# Altium footprint library misc1.PcbLib: 16 footprints
Each footprint in its own frame and in the unit in brackets; x right, y up, seen from the top. Pads: shape width x height; smd on the part's side, far side on the other; paste and mask are expansions set on the pad; w line width, h text height; cw(c..) or ccw(c..) is an arc to the next point about the centre after c.
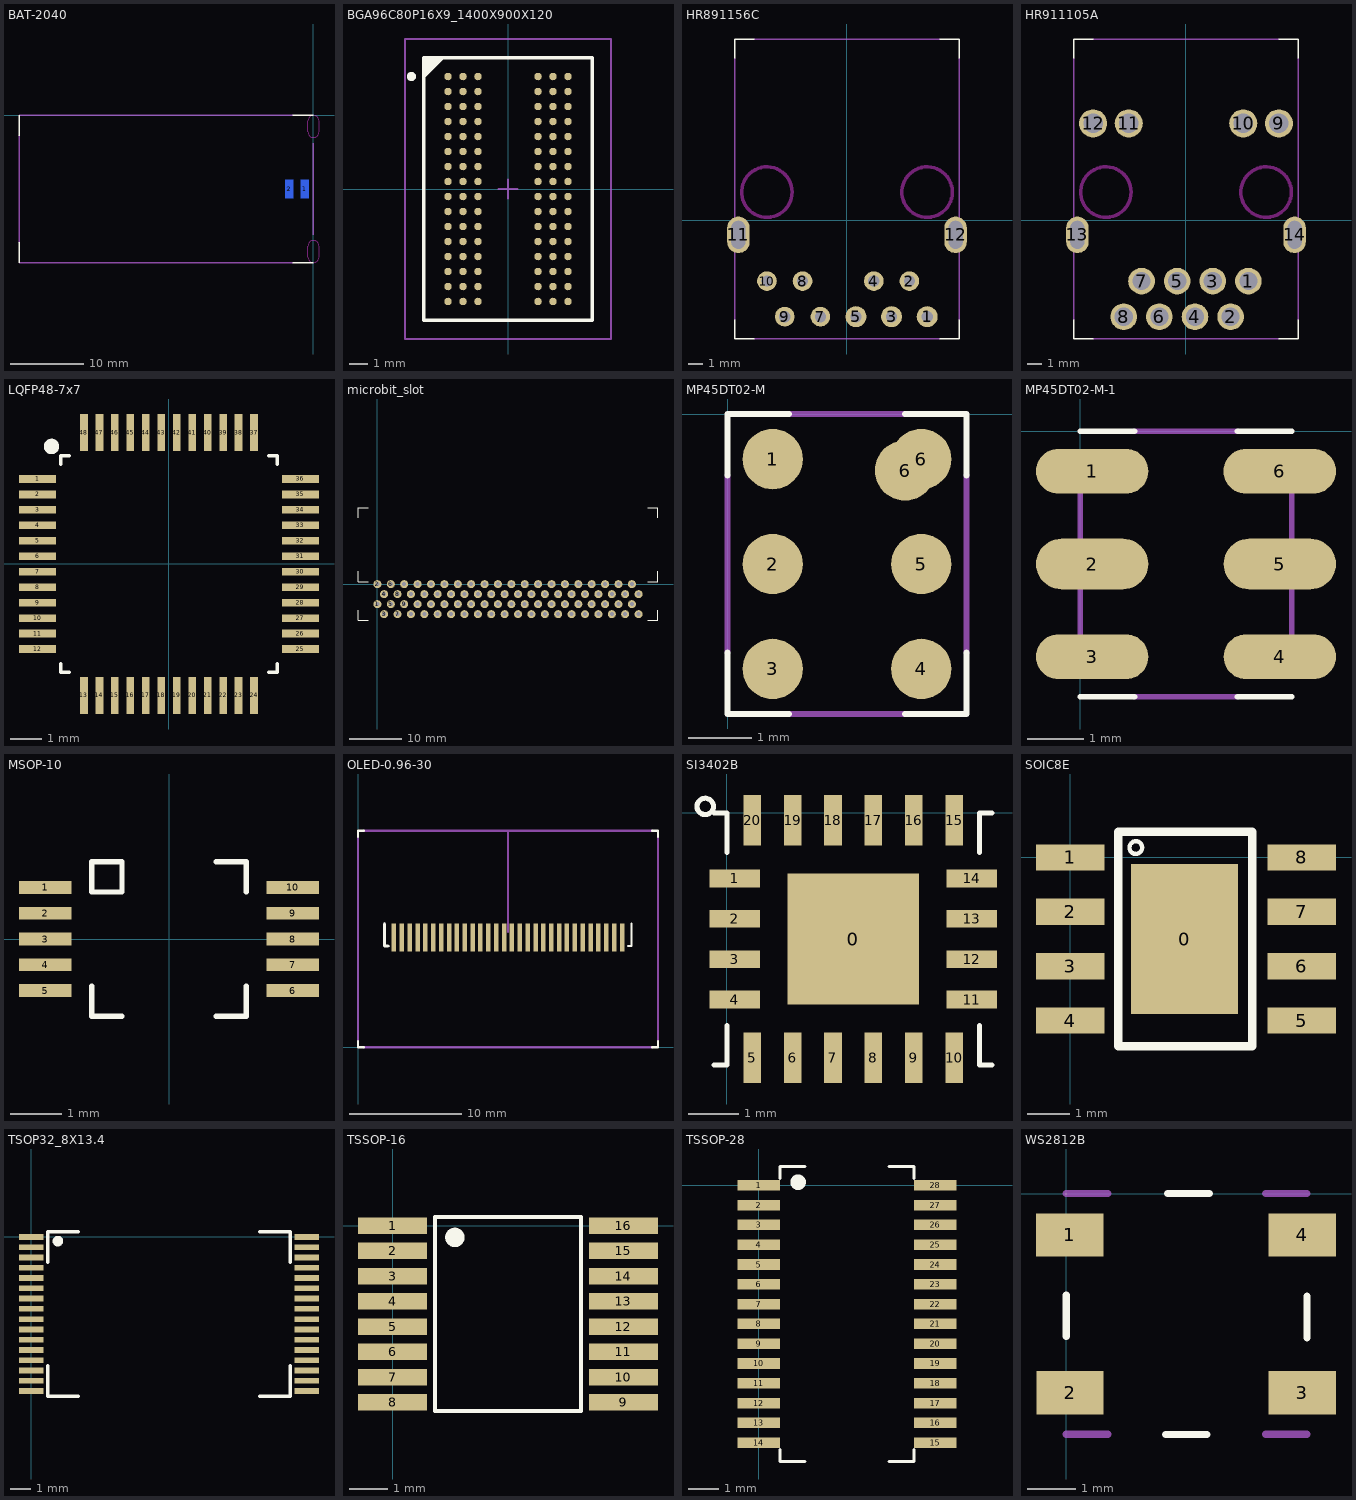
[diagram p0: the footprints below, top view; thin cyan lines are the x and y axes]

## BAT-2040 [mm]
pads (2):
  rect 1.1x2.5 smd far side: 1(-1.2,-10) 2(-3.3,-10)
Top Overlay:
  lines w0.2: -40,-20 -40,-17.206 ; -40,-2.794 -40,0 ; -2.794,-20 0,-20 ; -2.794,0 0,0
Bottom Overlay:
  text "+" at -1.524,-8.534 h1.5
Keep-Out Layer:
  lines w0.1: -0.75,-19.25 ccw(c0,-19.25) 0.75,-19.25 0.75,-17.75 ccw(c0,-17.75) -0.75,-17.75 -0.75,-19.25 ; -0.75,-2.25 ccw(c0,-2.25) 0.75,-2.25 0.75,-0.75 ccw(c0,-0.75) -0.75,-0.75 -0.75,-2.25
Mechanical 15:
  lines w0.2: -40,-20 -2.794,-20 ; -40,-17.206 -40,-2.794 ; -40,0 -2.794,0 ; 0,-16.203 0,-3.759

## BGA96C80P16X9_1400X900X120 [mm] "BGA, 96-Leads, Body 14.0x9.0mm,  Pitch 0.80mm   ywy  7045扳子拷贝 不知道是否适用于IS43 尺寸"
height 1.2
pads (96):
  round 0.4 smd: A1(-3.2,6) A2(-2.4,6) A3(-1.6,6) A7(1.6,6) A8(2.4,6) A9(3.2,6) B1(-3.2,5.2) B2(-2.4,5.2) B3(-1.6,5.2) B7(1.6,5.2) B8(2.4,5.2) B9(3.2,5.2) C1(-3.2,4.4) C2(-2.4,4.4) C3(-1.6,4.4) C7(1.6,4.4) C8(2.4,4.4) C9(3.2,4.4) D1(-3.2,3.6) D2(-2.4,3.6) D3(-1.6,3.6) D7(1.6,3.6) D8(2.4,3.6) D9(3.2,3.6) E1(-3.2,2.8) E2(-2.4,2.8) E3(-1.6,2.8) E7(1.6,2.8) E8(2.4,2.8) E9(3.2,2.8) F1(-3.2,2) F2(-2.4,2) F3(-1.6,2) F7(1.6,2) F8(2.4,2) F9(3.2,2) G1(-3.2,1.2) G2(-2.4,1.2) G3(-1.6,1.2) G7(1.6,1.2) G8(2.4,1.2) G9(3.2,1.2) H1(-3.2,0.4) H2(-2.4,0.4) H3(-1.6,0.4) H7(1.6,0.4) H8(2.4,0.4) H9(3.2,0.4) J1(-3.2,-0.4) J2(-2.4,-0.4) J3(-1.6,-0.4) J7(1.6,-0.4) J8(2.4,-0.4) J9(3.2,-0.4) K1(-3.2,-1.2) K2(-2.4,-1.2) K3(-1.6,-1.2) K7(1.6,-1.2) K8(2.4,-1.2) K9(3.2,-1.2) L1(-3.2,-2) L2(-2.4,-2) L3(-1.6,-2) L7(1.6,-2) L8(2.4,-2) L9(3.2,-2) M1(-3.2,-2.8) M2(-2.4,-2.8) M3(-1.6,-2.8) M7(1.6,-2.8) M8(2.4,-2.8) M9(3.2,-2.8) N1(-3.2,-3.6) N2(-2.4,-3.6) N3(-1.6,-3.6) N7(1.6,-3.6) N8(2.4,-3.6) N9(3.2,-3.6) P1(-3.2,-4.4) P2(-2.4,-4.4) P3(-1.6,-4.4) P7(1.6,-4.4) P8(2.4,-4.4) P9(3.2,-4.4) R1(-3.2,-5.2) R2(-2.4,-5.2) R3(-1.6,-5.2) R7(1.6,-5.2) R8(2.4,-5.2) R9(3.2,-5.2) T1(-3.2,-6) T2(-2.4,-6) T3(-1.6,-6) T7(1.6,-6) T8(2.4,-6) T9(3.2,-6)
Top Overlay:
  circle w0.25: c-5.15,6 r0.125
  region: -3.5,7 -4.5,6 -4.5,7
  lines w0.2: -4.5,6 -3.5,7 ; -4.5,-7 -4.5,7 4.5,7 4.5,-7 -4.5,-7
Mechanical 13:
  lines w0.1: -4.5,-7 -4.5,7 4.5,7 4.5,-7 -4.5,-7
Mechanical 15:
  lines w0.1: -0.5,0 0.5,0 ; 0,-0.5 0,0.5 ; -5.5,-8 -5.5,8 5.5,8 5.5,-8 -5.5,-8
3D body: height 1.2, standoff 0.25, extent -4.5,-7 4.5,7

## HR891156C [mm] "with POE 资料引脚直径0.89 实测0.5 内取0.8 外取1.4"
pads (11):
  round 1.5 hole 0.8: 1(5.72,-6.895) 3(3.18,-6.895) 5(0.64,-6.895)
  round 1.4 hole 0.8: 2(4.45,-4.355) 4(1.91,-4.355) 7(-1.9,-6.895) 8(-3.17,-4.355) 9(-4.44,-6.895) 10(-5.71,-4.355)
  oval 1.6x2.6 hole 1 slot 2 at 90 deg: 11(-7.745,-1.057) 12(7.745,-1.057)
Top Overlay:
  lines w0.1: -8,-7.117 -8,-8.485 -6.632,-8.485 ; -8,11.547 -8,12.915 -6.632,12.915 ; 6.632,-8.485 8,-8.485 8,-7.117 ; 6.632,12.915 8,12.915 8,11.547
Keep-Out Layer:
  circle w0.254: c-5.715,1.995 r1.8
  circle w0.254: c5.715,1.995 r1.8
Mechanical 15:
  lines w0.1: -8,-7.117 -8,11.547 ; -6.632,-8.485 6.632,-8.485 ; -6.632,12.915 6.632,12.915 ; 8,-7.117 8,11.547

## HR911105A [mm]
pads (14):
  round 1.9 hole 1.3: 1(4.45,-4.355) 2(3.18,-6.895) 3(1.91,-4.355) 4(0.64,-6.895) 5(-0.63,-4.355) 6(-1.9,-6.895) 7(-3.17,-4.355) 8(-4.44,-6.895)
  round 2 hole 1.4: 9(6.625,6.895) 10(4.085,6.895) 11(-4.085,6.895) 12(-6.625,6.895)
  oval 1.6x2.6 hole 1 slot 2 at 90 deg: 13(-7.745,-1.057) 14(7.745,-1.057)
Top Overlay:
  lines w0.1: -8,-7.117 -8,-8.485 -6.632,-8.485 ; -8,11.547 -8,12.915 -6.632,12.915 ; 6.632,-8.485 8,-8.485 8,-7.117 ; 6.632,12.915 8,12.915 8,11.547
Keep-Out Layer:
  circle w0.254: c-5.715,1.995 r1.8
  circle w0.254: c5.715,1.995 r1.8
Mechanical 15:
  lines w0.1: -8,-7.117 -8,11.547 ; -6.632,-8.485 6.632,-8.485 ; -6.632,12.915 6.632,12.915 ; 8,-7.117 8,11.547

## LQFP48-7x7 [mm] "从mcu中拷贝 用于w5500"
height 1.6
pads (48):
  rect 1.2x0.25 smd: 1(-4.25,2.75) 2(-4.25,2.25) 3(-4.25,1.75) 4(-4.25,1.25) 5(-4.25,0.75) 6(-4.25,0.25) 7(-4.25,-0.25) 8(-4.25,-0.75) 9(-4.25,-1.25) 10(-4.25,-1.75) 11(-4.25,-2.25) 12(-4.25,-2.75) 25(4.25,-2.75) 26(4.25,-2.25) 27(4.25,-1.75) 28(4.25,-1.25) 29(4.25,-0.75) 30(4.25,-0.25) 31(4.25,0.25) 32(4.25,0.75) 33(4.25,1.25) 34(4.25,1.75) 35(4.25,2.25) 36(4.25,2.75)
  rect 0.25x1.2 smd: 13(-2.75,-4.25) 14(-2.25,-4.25) 15(-1.75,-4.25) 16(-1.25,-4.25) 17(-0.75,-4.25) 18(-0.25,-4.25) 19(0.25,-4.25) 20(0.75,-4.25) 21(1.25,-4.25) 22(1.75,-4.25) 23(2.25,-4.25) 24(2.75,-4.25) 37(2.75,4.25) 38(2.25,4.25) 39(1.75,4.25) 40(1.25,4.25) 41(0.75,4.25) 42(0.25,4.25) 43(-0.25,4.25) 44(-0.75,4.25) 45(-1.25,4.25) 46(-1.75,4.25) 47(-2.25,4.25) 48(-2.75,4.25)
Top Overlay:
  circle w0.25: c-3.8,3.8 r0.125
  lines w0.1: -3.5,-3.226 -3.5,-3.5 -3.226,-3.5 ; -3.5,3.226 -3.5,3.5 -3.226,3.5 ; 3.226,-3.5 3.5,-3.5 3.5,-3.226 ; 3.226,3.5 3.5,3.5 3.5,3.226

## microbit_slot [mil]
pads (80):
  round 60 hole 30: 1(0,-149.61) 2(0,0) 3(50,-224.41) 4(50,-74.8) 5(100,-149.61) 6(100,0) 7(150,-224.41) 8(150,-74.8) 9(200,-149.61) 10(200,0) 11(250,-224.41) 12(250,-74.8) 13(300,-149.61) 14(300,0) 15(350,-224.41) 16(350,-74.8) 17(400,-149.61) 18(400,0) 19(450,-224.41) 20(450,-74.8) 21(500,-149.61) 22(500,0) 23(550,-224.41) 24(550,-74.8) 25(600,-149.61) 26(600,0) 27(650,-224.41) 28(650,-74.8) 29(700,-149.61) 30(700,0) 31(750,-224.41) 32(750,-74.8) 33(800,-149.61) 34(800,0) 35(850,-224.41) 36(850,-74.8) 37(900,-149.61) 38(900,0) 39(950,-224.41) 40(950,-74.8) 41(1000,-149.61) 42(1000,0) 43(1050,-224.41) 44(1050,-74.8) 45(1100,-149.61) 46(1100,0) 47(1150,-224.41) 48(1150,-74.8) 49(1200,-149.61) 50(1200,0) 51(1250,-224.41) 52(1250,-74.8) 53(1300,-149.61) 54(1300,0) 55(1350,-224.41) 56(1350,-74.8) 57(1400,-149.61) 58(1400,0) 59(1450,-224.41) 60(1450,-74.8) 61(1500,-149.61) 62(1500,0) 63(1550,-224.41) 64(1550,-74.8) 65(1600,-149.61) 66(1600,0) 67(1650,-224.41) 68(1650,-74.8) 69(1700,-149.61) 70(1700,0) 71(1750,-224.41) 72(1750,-74.8) 73(1800,-149.61) 74(1800,0) 75(1850,-224.41) 76(1850,-74.8) 77(1900,-149.61) 78(1900,0) 79(1950,-224.41) 80(1950,-74.8)
Top Overlay:
  lines w3.94: -145.08,-194.21 -145.08,-270 -69.29,-270 ; -145.08,95.47 -145.08,19.68 -69.29,19.68 ; -145.08,495.08 -145.08,570.87 -69.29,570.87 ; 2019.29,-270 2095.08,-270 2095.08,-194.21 ; 2019.29,19.68 2095.08,19.68 2095.08,95.47 ; 2019.29,570.87 2095.08,570.87 2095.08,495.08

## MP45DT02-M [mm]
pads (7):
  round 0.95 smd: 1(0.712,-0.71) 2(0.712,-2.36) 3(0.712,-4.011) 4(3.049,-4.011) 5(3.049,-2.36) 6(2.794,-0.889) 6(3.048,-0.71)
Top Overlay:
  lines w0.1: 0,-3.757 0,-4.72 0.963,-4.72 ; 0,-0.963 0,0 0.963,0 ; 2.797,-4.72 3.76,-4.72 3.76,-3.757 ; 2.797,0 3.76,0 3.76,-0.963
Mechanical 15:
  lines w0.1: 0,-3.757 0,-0.963 ; 0.963,-4.72 2.797,-4.72 ; 0.963,0 2.797,0 ; 3.76,-3.757 3.76,-0.963

## MP45DT02-M-1 [mm] "用于手焊"
pads (6):
  oval 2x0.8 smd: 1(0.212,-0.71) 3(0.212,-4.01) 4(3.549,-4.01) 6(3.548,-0.71)
  oval 2x0.9 smd: 2(0.212,-2.36) 5(3.549,-2.36)
Top Overlay:
  lines w0.1: 0,-4.72 0.963,-4.72 ; 0,0 0.963,0 ; 2.797,-4.72 3.76,-4.72 ; 2.797,0 3.76,0
Mechanical 15:
  lines w0.1: 0,-3.757 0,-0.963 ; 0.963,-4.72 2.797,-4.72 ; 0.963,0 2.797,0 ; 3.76,-3.757 3.76,-0.963

## MSOP-10 [mm] "TSSOP-10"
height 0.9
pads (10):
  rect 1.02x0.25 smd: 1(-2.4,1) 2(-2.4,0.5) 3(-2.4,0) 4(-2.4,-0.5) 5(-2.4,-1) 6(2.4,-1) 7(2.4,-0.5) 8(2.4,0) 9(2.4,0.5) 10(2.4,1)
Top Overlay:
  lines w0.1: -1.5,-0.914 -1.5,-1.5 -0.914,-1.5 ; 0.914,-1.5 1.5,-1.5 1.5,-0.914 ; 0.914,1.5 1.5,1.5 1.5,0.914 ; -1.5,0.914 -1.5,1.5 -0.914,1.5 -0.914,0.914 -1.5,0.914

## OLED-0.96-30 [mm]
pads (30):
  rect 0.4x2.5 smd: 1(3.2,9.754) 2(3.9,9.754) 3(4.6,9.754) 4(5.3,9.754) 5(6,9.754) 6(6.7,9.754) 7(7.4,9.754) 8(8.1,9.754) 9(8.8,9.754) 10(9.5,9.754) 11(10.2,9.754) 12(10.9,9.754) 13(11.6,9.754) 14(12.3,9.754) 15(13,9.754) 16(13.7,9.754) 17(14.4,9.754) 18(15.1,9.754) 19(15.8,9.754) 20(16.5,9.754) 21(17.2,9.754) 22(17.9,9.754) 23(18.6,9.754) 24(19.3,9.754) 25(20,9.754) 26(20.7,9.754) 27(21.4,9.754) 28(22.1,9.754) 29(22.8,9.754) 30(23.5,9.754)
Top Overlay:
  region: 2.35,8.895 2.274,8.927 2.242,9.004 2.25,9.004 2.242,11.004 2.274,11.08 2.35,11.112 2.427,11.08 2.459,11.004 2.451,11.004 2.451,9.104 2.704,9.112 2.781,9.08 2.813,9.004 2.781,8.927 2.704,8.895 2.704,8.903
  lines w0.2: 0,0.527 0,0 0.527,0 ; 0,18.733 0,19.26 0.527,19.26 ; 2.35,11.004 2.35,9.004 2.704,9.004 ; 24.042,9.004 24.35,9.004 24.35,11.004 ; 26.173,0 26.7,0 26.7,0.527 ; 26.173,19.26 26.7,19.26 26.7,18.733
Mechanical 15:
  lines w0.152: 13.35,10.26 13.35,19.26
  lines w0.2: 0,0.527 0,18.733 ; 0.527,0 26.173,0 ; 0.527,19.26 26.173,19.26 ; 26.7,0.527 26.7,18.733
  text "9mm" at 13.132,13.31 h1

## SI3402B [mm]
pads (21):
  rect 2.6x2.6 smd: 0(2.5,-2.5)
  rect 1x0.35 smd: 1(0.15,-1.3) 2(0.15,-2.1) 3(0.15,-2.9) 4(0.15,-3.7) 11(4.85,-3.7) 12(4.85,-2.9) 13(4.85,-2.1) 14(4.85,-1.3)
  rect 0.35x1 smd: 5(0.5,-4.85) 6(1.3,-4.85) 7(2.1,-4.85) 8(2.9,-4.85) 9(3.7,-4.85) 10(4.5,-4.85) 15(4.5,-0.15) 16(3.7,-0.15) 17(2.9,-0.15) 18(2.1,-0.15) 19(1.3,-0.15) 20(0.5,-0.15)
Top Overlay:
  circle w0.1: c-0.432,0.127 r0.163
  lines w0.1: -0.254,-5 0,-5 0,-4.213 ; -0.254,0 0,0 0,-0.787 ; 5,-4.213 5,-5 5.254,-5 ; 5,-0.787 5,0 5.254,0

## SOIC8E [mm]
pads (9):
  rect 2.5x3.51 smd: 0(2.667,-1.905)
  rect 1.6x0.61 smd: 1(0,0) 2(0,-1.27) 3(0,-2.54) 4(0,-3.81) 5(5.4,-3.81) 6(5.4,-2.54) 7(5.4,-1.27) 8(5.4,0)
Top Overlay:
  circle w0.1: c1.528,0.229 r0.148
  lines w0.2: 1.118,-4.405 1.118,0.595 4.242,0.595 4.242,-4.405 1.118,-4.405

## TSOP32_8X13.4 [mm]
pads (32):
  rect 1.2x0.28 smd: 1(0,0) 2(0,-0.5) 3(0,-1) 4(0,-1.5) 5(0,-2) 6(0,-2.5) 7(0,-3) 8(0,-3.5) 9(0,-4) 10(0,-4.5) 11(0,-5) 12(0,-5.5) 13(0,-6) 14(0,-6.5) 15(0,-7) 16(0,-7.5) 17(13.4,-7.5) 18(13.4,-7) 19(13.4,-6.5) 20(13.4,-6) 21(13.4,-5.5) 22(13.4,-5) 23(13.4,-4.5) 24(13.4,-4) 25(13.4,-3.5) 26(13.4,-3) 27(13.4,-2.5) 28(13.4,-2) 29(13.4,-1.5) 30(13.4,-1) 31(13.4,-0.5) 32(13.4,0)
Top Overlay:
  circle w0.254: c1.293,-0.203 r0.13
  lines w0.152: 0.8,-6.266 0.8,-7.75 2.284,-7.75 ; 0.8,-1.234 0.8,0.25 2.284,0.25 ; 11.116,-7.75 12.6,-7.75 12.6,-6.266 ; 11.116,0.25 12.6,0.25 12.6,-1.234

## TSSOP-16 [mm]
height 1.1
pads (16):
  rect 1.78x0.42 smd: 1(0,0) 2(0,-0.65) 3(0,-1.3) 4(0,-1.95) 5(0,-2.6) 6(0,-3.25) 7(0,-3.9) 8(0,-4.55) 9(5.94,-4.55) 10(5.94,-3.9) 11(5.94,-3.25) 12(5.94,-2.6) 13(5.94,-1.95) 14(5.94,-1.3) 15(5.94,-0.65) 16(5.94,0)
Top Overlay:
  circle w0.25: c1.602,-0.305 r0.125
  lines w0.1: 4.851,-4.775 1.092,-4.775 1.092,0.225 4.851,0.225 ; 4.851,-4.771 4.851,0.229

## TSSOP-28 [mm]
pads (28):
  rect 1.4x0.35 smd: 1(0,0) 2(0,-0.65) 3(0,-1.3) 4(0,-1.95) 5(0,-2.6) 6(0,-3.25) 7(0,-3.9) 8(0,-4.55) 9(0,-5.2) 10(0,-5.85) 11(0,-6.5) 12(0,-7.15) 13(0,-7.8) 14(0,-8.45) 15(5.8,-8.45) 16(5.8,-7.8) 17(5.8,-7.15) 18(5.8,-6.5) 19(5.8,-5.85) 20(5.8,-5.2) 21(5.8,-4.55) 22(5.8,-3.9) 23(5.8,-3.25) 24(5.8,-2.6) 25(5.8,-1.95) 26(5.8,-1.3) 27(5.8,-0.65) 28(5.8,0)
Top Overlay:
  circle w0.254: c1.295,0.102 r0.127
  lines w0.1: 0.7,-8.679 0.7,-9.075 1.524,-9.075 ; 0.7,0.229 0.7,0.625 1.524,0.625 ; 4.276,-9.075 5.1,-9.075 5.1,-8.679 ; 4.276,0.625 5.1,0.625 5.1,0.229

## WS2812B [mm]
pads (4):
  rect 1.4x0.9 smd: 1(0.07,-0.86) 2(0.076,-4.14) 3(4.9,-4.14) 4(4.9,-0.86)
Top Overlay:
  lines w0.15: 0,-2.972 0,-2.108 ; 2.057,-5.004 2.921,-5.004 ; 2.108,0 2.972,0 ; 5,-2.997 5,-2.134
Mechanical 15:
  lines w0.15: 0,-5 0.864,-5 ; 0,0 0.864,0 ; 4.136,-5 5,-5 ; 4.136,0 5,0